# EAGLE library part MOSFET-DUAL-N (library FaBo-Mosfet)
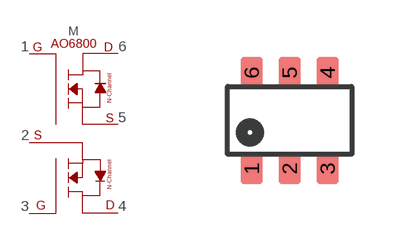
[diagram p0: symbol with the pads of TSOP6; footprint TSOP6]

Designator prefix M

## MOSFET-DUAL-N_AO6800  [TSOP6]
1  G1  pas
2  S2  pas
3  G2  pas
4  D2  pas
5  S1  pas
6  D1  pas

## Footprint TSOP6 (pad centres in mm)
smd 0.55 x 0.8: 1 -0.95,-1.2; 2 0,-1.2; 3 0.95,-1.2; 4 0.95,1.2; 5 0,1.2; 6 -0.95,1.2